# EAGLE library part LM2904 (library ti)
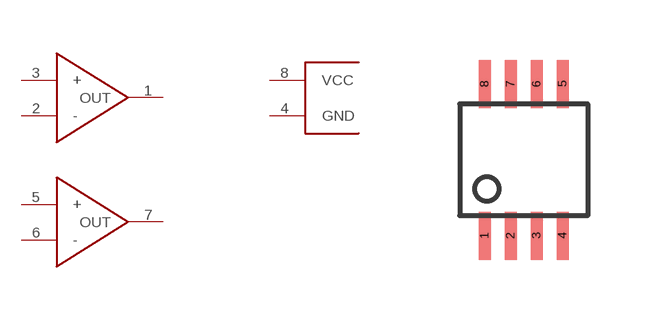
[diagram p16: symbol with the pads of SSOP8; footprint SSOP8]

Designator prefix -; gates G$1=LM2904_SUPPLY G$2=LM2904_OPV G$3=LM2904_OPV

## LM2904  [SSOP8]
1  G$2:OUT
2  G$2:-
3  G$2:+
4  G$1:GND
5  G$3:+
6  G$3:-
7  G$3:OUT
8  G$1:VCC

## Footprint SSOP8 (pad centres in mm)
smd 0.3 x 1.2: 1 -0.975,-1.9; 2 -0.325,-1.9; 3 0.325,-1.9; 4 0.975,-1.9; 5 0.975,1.9; 6 0.325,1.9; 7 -0.325,1.9; 8 -0.975,1.9